# Altium schematic symbol library user_conector.SchLib: 2 symbols
Pins are listed as number, name and electrical type; pins without a type are passive.

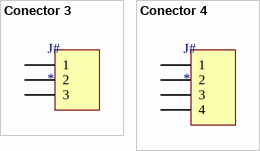
[diagram p0: symbols Conector 3 to Conector 4]

## Conector 3
designator J#
footprint HEADER_FEMALE_3
footprint Bornera 3
pins: 1, 2, 3

## Conector 4
designator J#
footprint BORNERA 4
footprint HEADER_FEMALE_4
footprint HEADER_MALE_4
pins: 1, 2, 3, 4